# Altium schematic symbol library DSHP03TS-S.SchLib: 1 symbol
Pins are listed as number, name and electrical type; pins without a type are passive.

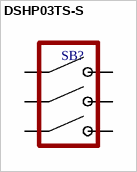
[diagram p0: symbol DSHP03TS-S]

## DSHP03TS-S
designator SB?
pins: 1  , 2  , 3  , 4  , 5  , 6  